# Altium footprint library SIGMA_2D.PcbLib: 200 footprints (part 6 of 13)
Each footprint in its own frame and in the unit in brackets; x right, y up, seen from the top. Pads: shape width x height; smd on the part's side, far side on the other; paste and mask are expansions set on the pad; w line width, h text height; cw(c..) or ccw(c..) is an arc to the next point about the centre after c.
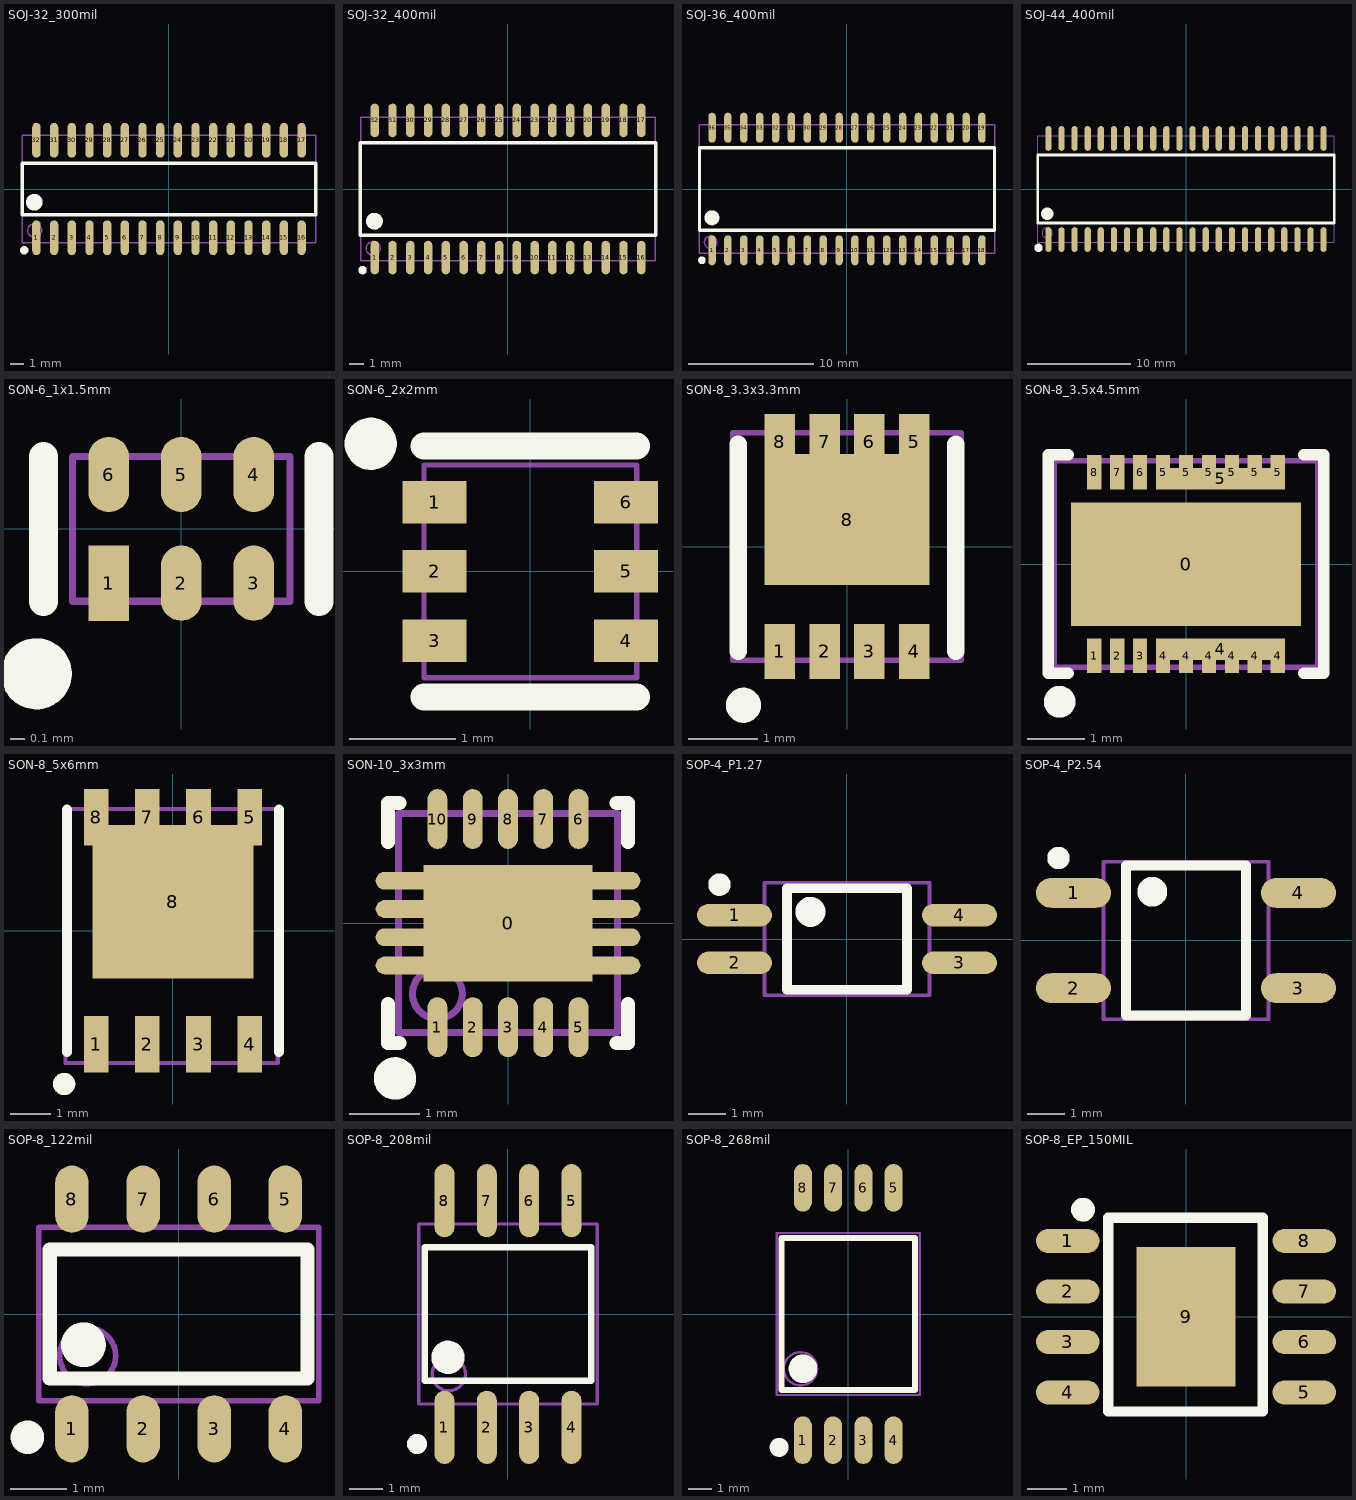
[diagram p5: the footprints below, top view; thin cyan lines are the x and y axes]

## SOJ-32_300mil [mm]
pads (32):
  oval 0.6x2.5 smd: 1(-9.525,-3.5) 2(-8.255,-3.5) 3(-6.985,-3.5) 4(-5.715,-3.5) 5(-4.445,-3.5) 6(-3.175,-3.5) 7(-1.905,-3.5) 8(-0.635,-3.5) 9(0.635,-3.5) 10(1.905,-3.5) 11(3.175,-3.5) 12(4.445,-3.5) 13(5.715,-3.5) 14(6.985,-3.5) 15(8.255,-3.5) 16(9.525,-3.5) 17(9.525,3.5) 18(8.255,3.5) 19(6.985,3.5) 20(5.715,3.5) 21(4.445,3.5) 22(3.175,3.5) 23(1.905,3.5) 24(0.635,3.5) 25(-0.635,3.5) 26(-1.905,3.5) 27(-3.175,3.5) 28(-4.445,3.5) 29(-5.715,3.5) 30(-6.985,3.5) 31(-8.255,3.5) 32(-9.525,3.5)
Top Overlay:
  circle w0.6: c-9.675,-0.95 r0.3
  circle w0.3: c-10.4,-4.4 r0.15
  lines w0.254: -10.55,-1.85 -10.55,1.85 10.55,1.85 10.55,-1.85 -10.55,-1.85
Mechanical 13:
  circle w0.1: c-9.645,-2.975 r0.5
  lines w0.1: -10.545,-3.875 -10.545,3.875 10.545,3.875 10.545,-3.875 -10.545,-3.875

## SOJ-32_400mil [mm]
pads (32):
  oval 0.6x2.4 smd: 1(-9.525,-4.9) 2(-8.255,-4.9) 3(-6.985,-4.9) 4(-5.715,-4.9) 5(-4.445,-4.9) 6(-3.175,-4.9) 7(-1.905,-4.9) 8(-0.635,-4.9) 9(0.635,-4.9) 10(1.905,-4.9) 11(3.175,-4.9) 12(4.445,-4.9) 13(5.715,-4.9) 14(6.985,-4.9) 15(8.255,-4.9) 16(9.525,-4.9) 17(9.525,4.9) 18(8.255,4.9) 19(6.985,4.9) 20(5.715,4.9) 21(4.445,4.9) 22(3.175,4.9) 23(1.905,4.9) 24(0.635,4.9) 25(-0.635,4.9) 26(-1.905,4.9) 27(-3.175,4.9) 28(-4.445,4.9) 29(-5.715,4.9) 30(-6.985,4.9) 31(-8.255,4.9) 32(-9.525,4.9)
Top Overlay:
  circle w0.3: c-10.4,-5.8 r0.15
  circle w0.6: c-9.55,-2.3 r0.3
  lines w0.254: -10.55,-3.3 10.55,-3.3 10.55,3.3 -10.55,3.3 -10.55,-3.3
Mechanical 13:
  circle w0.1: c-9.64,-4.245 r0.5
  lines w0.1: -10.54,-5.145 10.54,-5.145 10.54,5.145 -10.54,5.145 -10.54,-5.145

## SOJ-36_400mil [mm]
pads (36):
  oval 0.6x2.4 smd: 1(-10.795,-4.9) 2(-9.525,-4.9) 3(-8.255,-4.9) 4(-6.985,-4.9) 5(-5.715,-4.9) 6(-4.445,-4.9) 7(-3.175,-4.9) 8(-1.905,-4.9) 9(-0.635,-4.9) 10(0.635,-4.9) 11(1.905,-4.9) 12(3.175,-4.9) 13(4.445,-4.9) 14(5.715,-4.9) 15(6.985,-4.9) 16(8.255,-4.9) 17(9.525,-4.9) 18(10.795,-4.9) 19(10.795,4.9) 20(9.525,4.9) 21(8.255,4.9) 22(6.985,4.9) 23(5.715,4.9) 24(4.445,4.9) 25(3.175,4.9) 26(1.905,4.9) 27(0.635,4.9) 28(-0.635,4.9) 29(-1.905,4.9) 30(-3.175,4.9) 31(-4.445,4.9) 32(-5.715,4.9) 33(-6.985,4.9) 34(-8.255,4.9) 35(-9.525,4.9) 36(-10.795,4.9)
Top Overlay:
  circle w0.3: c-11.6,-5.7 r0.15
  circle w0.6: c-10.8,-2.3 r0.3
  lines w0.254: -11.8,-3.3 11.8,-3.3 11.8,3.3 -11.8,3.3 -11.8,-3.3
Mechanical 13:
  circle w0.1: c-10.91,-4.245 r0.5
  lines w0.1: -11.81,-5.145 11.81,-5.145 11.81,5.145 -11.81,5.145 -11.81,-5.145

## SOJ-44_400mil [mm]
pads (44):
  oval 0.6x2.4 smd: 1(-13.335,-4.9) 2(-12.065,-4.9) 3(-10.795,-4.9) 4(-9.525,-4.9) 5(-8.255,-4.9) 6(-6.985,-4.9) 7(-5.715,-4.9) 8(-4.445,-4.9) 9(-3.175,-4.9) 10(-1.905,-4.9) 11(-0.635,-4.9) 12(0.635,-4.9) 13(1.905,-4.9) 14(3.175,-4.9) 15(4.445,-4.9) 16(5.715,-4.9) 17(6.985,-4.9) 18(8.255,-4.9) 19(9.525,-4.9) 20(10.795,-4.9) 21(12.065,-4.9) 22(13.335,-4.9) 23(13.335,4.9) 24(12.065,4.9) 25(10.795,4.9) 26(9.525,4.9) 27(8.255,4.9) 28(6.985,4.9) 29(5.715,4.9) 30(4.445,4.9) 31(3.175,4.9) 32(1.905,4.9) 33(0.635,4.9) 34(-0.635,4.9) 35(-1.905,4.9) 36(-3.175,4.9) 37(-4.445,4.9) 38(-5.715,4.9) 39(-6.985,4.9) 40(-8.255,4.9) 41(-9.525,4.9) 42(-10.795,4.9) 43(-12.065,4.9) 44(-13.335,4.9)
Top Overlay:
  circle w0.4: c-14.3,-5.7 r0.2
  circle w0.6: c-13.45,-2.4 r0.3
  lines w0.254: -14.35,-3.3 14.35,-3.3 14.35,3.3 -14.35,3.3 -14.35,-3.3
Mechanical 13:
  circle w0.1: c-13.45,-4.245 r0.5
  lines w0.1: -14.35,-5.145 14.35,-5.145 14.35,5.145 -14.35,5.145 -14.35,-5.145

## SON-6_1x1.5mm [mm]
pads (6):
  rect 0.28x0.52 smd mask+0.051: 1(-0.5,-0.375)
  oval 0.28x0.52 smd mask+0.051: 2(0,-0.375) 3(0.5,-0.375) 4(0.5,0.375) 5(0,0.375) 6(-0.5,0.375)
Top Overlay:
  circle w0.25: c-1,-1 r0.12
  lines w0.2: -0.95,-0.5 -0.95,0.5 ; 0.95,-0.5 0.95,0.5
Mechanical 13:
  lines w0.05: -0.75,-0.5 -0.75,0.5 0.75,0.5 0.75,-0.5 -0.75,-0.5

## SON-6_2x2mm [mm]
pads (6):
  rect 0.6x0.4 smd mask+0.051: 1(-0.9,0.65) 2(-0.9,0) 3(-0.9,-0.65) 4(0.9,-0.65) 5(0.9,0) 6(0.9,0.65)
Top Overlay:
  circle w0.25: c-1.5,1.2 r0.12
  lines w0.254: -1,-1.18 1,-1.18 ; -1,1.18 1,1.18
Mechanical 1:
  lines w0.05: -1,-1 1,-1 ; -1,1 1,1
Mechanical 13:
  lines w0.05: -1,-1 1,-1 1,1 -1,1 -1,-1

## SON-8_3.3x3.3mm [mm]
pads (9):
  rect 0.44x0.8 smd mask+0.051: 1(-0.975,-1.52) 2(-0.325,-1.52) 3(0.325,-1.52) 4(0.975,-1.52) 5(0.975,1.52) 6(0.325,1.52) 7(-0.325,1.52) 8(-0.975,1.52)
  rect 2.39x1.9 smd mask+0.051: 8(0,0.39)
Top Overlay:
  circle w0.254: c-1.5,-2.3 r0.127
  lines w0.254: -1.575,-1.52 -1.575,1.48 ; 1.575,-1.52 1.575,1.48
Mechanical 13:
  lines w0.076: -1.655,-1.65 1.655,-1.65 1.655,1.65 -1.655,1.65 -1.655,-1.65

## SON-8_3.5x4.5mm [mm]
pads (21):
  rect 4x2.15 smd mask+0.051: 0(0,0)
  rect 0.25x0.6 smd mask+0.051: 1(-1.6,-1.6) 2(-1.2,-1.6) 3(-0.8,-1.6) 4(-0.4,-1.6) 4(0,-1.6) 4(0.4,-1.6) 4(0.8,-1.6) 4(1.2,-1.6) 4(1.6,-1.6) 5(-0.4,1.6) 5(0,1.6) 5(0.4,1.6) 5(0.8,1.6) 5(1.2,1.6) 5(1.6,1.6) 6(-0.8,1.6) 7(-1.2,1.6) 8(-1.6,1.6)
  rect 2.25x0.375 smd mask+0.051: 4(0.6,-1.487) 5(0.6,1.488)
Top Overlay:
  circle w0.305: c-2.2,-2.4 r0.125
  lines w0.2: -2.05,-1.9 -2.4,-1.9 -2.4,1.9 -2.05,1.9 ; 2.05,-1.9 2.4,-1.9 2.4,1.9 2.05,1.9
Mechanical 13:
  lines w0.1: -2.3,-1.8 -2.3,1.8 2.3,1.8 2.3,-1.8 -2.3,-1.8

## SON-8_5x6mm [mm]
pads (9):
  rect 0.61x1.4 smd: 1(-1.905,-2.816) 2(-0.635,-2.816) 3(0.635,-2.816) 4(1.905,-2.816) 5(1.905,2.816) 6(0.635,2.816) 7(-0.635,2.816) 8(-1.905,2.816)
  rect 4x3.81 smd: 8(0,0.716)
Top Overlay:
  circle w0.305: c-2.7,-3.8 r0.125
  lines w0.254: -2.63,-3 -2.63,3 ; 2.63,-3 2.63,3
Mechanical 13:
  lines w0.1: -2.66,-3.284 -2.66,3.016 2.6,3.016 2.6,-3.284 -2.66,-3.284

## SON-10_3x3mm [mm]
pads (19):
  rect 2.4x1.65 smd paste-0.825 mask+0.051: 0(0,0)
  oval 0.28x0.85 smd paste-0.025 mask+0.051: 1(-1,-1.475) 2(-0.5,-1.475) 3(0,-1.475) 4(0.5,-1.475) 5(1,-1.475) 6(1,1.475) 7(0.5,1.475) 8(0,1.475) 9(-0.5,1.475) 10(-1,1.475)
  oval 1x0.25 smd mask+0.051: ""(-1.375,-0.6) ""(-1.375,-0.2) ""(-1.375,0.2) ""(-1.375,0.6) ""(1.375,-0.6) ""(1.375,-0.2) ""(1.375,0.2) ""(1.375,0.6)
Top Overlay:
  circle w0.3: c-1.6,-2.2 r0.15
  lines w0.2: -1.7,-1.15 -1.7,-1.7 -1.54,-1.7 ; -1.7,1.15 -1.7,1.7 -1.54,1.7 ; 1.54,-1.7 1.7,-1.7 1.7,-1.15 ; 1.54,1.7 1.7,1.7 1.7,1.15
Top Paste:
  region: -0.55,0.6 -0.55,-0.6 0.5,-0.6 0.5,0.6
Mechanical 13:
  circle w0.1: c-1,-1 r0.354
  lines w0.1: -1.55,-1.55 -1.55,1.55 1.55,1.55 1.55,-1.55 -1.55,-1.55

## SOP-4_P1.27 [mm]
pads (4):
  oval 2x0.6 smd: 1(-3,0.635) 2(-3,-0.635) 3(3,-0.635) 4(3,0.635)
Top Overlay:
  circle w0.4: c-0.975,0.725 r0.2
  circle w0.3: c-3.4,1.45 r0.15
  lines w0.254: -1.6,-1.35 1.6,-1.35 1.6,1.35 -1.6,1.35 -1.6,-1.35
Mechanical 13:
  lines w0.1: -2.2,-1.5 2.2,-1.5 2.2,1.5 -2.2,1.5 -2.2,-1.5

## SOP-4_P2.54 [mm]
pads (4):
  oval 2x0.8 smd: 1(-3,1.27) 2(-3,-1.27) 3(3,-1.27) 4(3,1.27)
Top Overlay:
  circle w0.3: c-3.4,2.2 r0.15
  circle w0.4: c-0.9,1.3 r0.2
  lines w0.254: -1.6,-2 -1.6,2 1.6,2 1.6,-2 -1.6,-2
Mechanical 13:
  lines w0.1: -2.2,-2.1 -2.2,2.1 2.2,2.1 2.2,-2.1 -2.2,-2.1

## SOP-8_122mil [mm]
pads (8):
  oval 0.6x1.2 smd: 1(-1.905,-2.05) 2(-0.635,-2.05) 3(0.635,-2.05) 4(1.905,-2.05) 5(1.905,2.05) 6(0.635,2.05) 7(-0.635,2.05) 8(-1.905,2.05)
Top Overlay:
  circle w0.3: c-2.7,-2.2 r0.15
  circle w0.4: c-1.7,-0.55 r0.2
  lines w0.254: -2.3,-1.15 -2.3,1.15 2.3,1.15 2.3,-1.15 -2.3,-1.15
Mechanical 13:
  circle w0.1: c-1.625,-0.745 r0.5
  lines w0.1: -2.5,-1.55 -2.5,1.55 2.5,1.55 2.5,-1.55 -2.5,-1.55

## SOP-8_208mil [mm]
height 2.2
pads (8):
  oval 0.6x2.2 smd: 1(-1.905,-3.4) 2(-0.635,-3.4) 3(0.635,-3.4) 4(1.905,-3.4) 5(1.905,3.4) 6(0.635,3.4) 7(-0.635,3.4) 8(-1.905,3.4)
Top Overlay:
  circle w0.3: c-2.73,-3.9 r0.15
  circle w0.5: c-1.8,-1.3 r0.25
  lines w0.2: -2.5,-2 -2.5,2 2.5,2 2.5,-2 -2.5,-2
Mechanical 13:
  circle w0.1: c-1.775,-1.8 r0.5
  lines w0.1: -2.675,-2.7 -2.675,2.7 2.675,2.7 2.675,-2.7 -2.675,-2.7

## SOP-8_268mil [mm]
pads (8):
  oval 0.76x2 smd: 1(-1.905,-5.3) 2(-0.635,-5.3) 3(0.635,-5.3) 4(1.905,-5.3) 5(1.905,5.3) 6(0.635,5.3) 7(-0.635,5.3) 8(-1.905,5.3)
Top Overlay:
  circle w0.6: c-1.9,-2.3 r0.3
  circle w0.4: c-2.9,-5.6 r0.2
  lines w0.254: -2.8,-3.2 2.8,-3.2 2.8,3.2 -2.8,3.2 -2.8,-3.2
Mechanical 13:
  circle w0.1: c-2,-2.3 r0.7
  lines w0.1: -3,-3.4 3,-3.4 3,3.4 -3,3.4 -3,-3.4

## SOP-8_EP_150MIL [mm]
pads (9):
  oval 1.6x0.6 smd: 1(-2.972,1.905) 2(-2.972,0.635) 3(-2.972,-0.635) 4(-2.972,-1.905) 5(2.972,-1.905) 6(2.972,-0.635) 7(2.972,0.635) 8(2.972,1.905)
  rect 2.5x3.5 smd: 9(0,0)
Top Overlay:
  lines w0.254: -1.956,2.489 -1.956,-2.388 1.93,-2.388 1.93,2.489 -1.93,2.489
  lines w0.3: -2.438,2.69 cw(c-2.588,2.691) -2.438,2.692